# Altium schematic symbol library Q_PNP.SchLib: 1 symbol
Pins are listed as number, name and electrical type; pins without a type are passive.

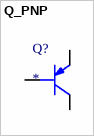
[diagram p0: symbol Q_PNP]

## Q_PNP
designator Q?
Transistor, PNP
pins: BASE, COLLECTOR, EMITTER